# Altium schematic symbol library FM375_LQFP64.SchLib: 2 symbols
Pins are listed as number, name and electrical type; pins without a type are passive.

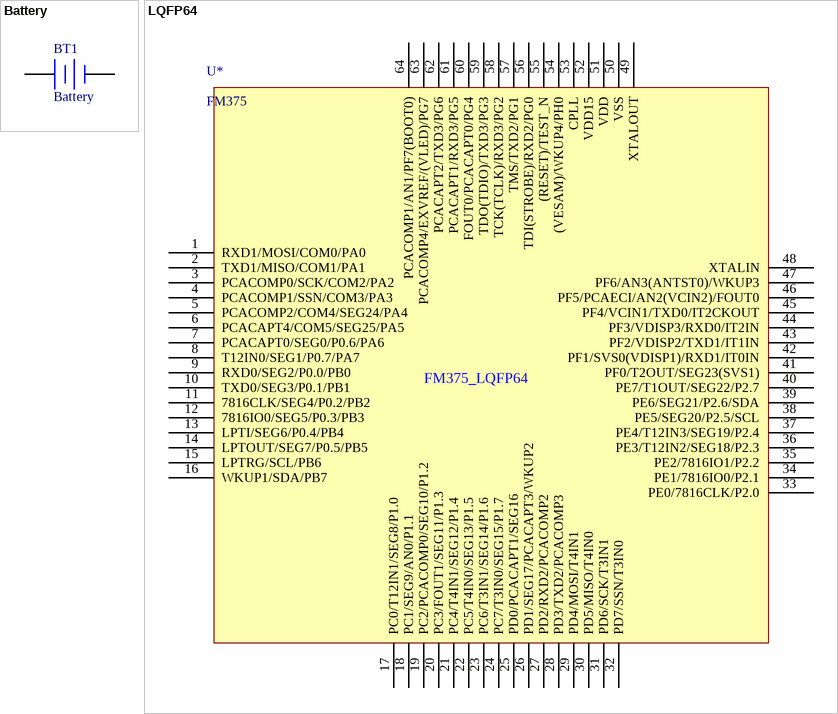
[diagram p0: symbols Battery to LQFP64]

## Battery
designator BT1
Multicell Battery; Published: 24-Mar-1999; LatestRevisionDate: 17-Jul-2002; LatestRevisionNote: Re-released for DXP Platform.; PackageReference: BAT-2; Publisher: Altium Limited; PackageDescription: Battery; 2 Leads
footprint BAT-2 (Battery; 2 Leads)
pins: 1 +, 2 -

## LQFP64
designator U*, comment FM375
footprint LQFP64-0.5
pins: 1 RXD1/MOSI/COM0/PA0, 2 TXD1/MISO/COM1/PA1, 3 PCACOMP0/SCK/COM2/PA2, 4 PCACOMP1/SSN/COM3/PA3, 5 PCACOMP2/COM4/SEG24/PA4, 6 PCACAPT4/COM5/SEG25/PA5, 7 PCACAPT0/SEG0/P0.6/PA6, 8 T12IN0/SEG1/P0.7/PA7, 9 RXD0/SEG2/P0.0/PB0, 10 TXD0/SEG3/P0.1/PB1, 11 7816CLK/SEG4/P0.2/PB2, 12 7816IO0/SEG5/P0.3/PB3, 13 LPTI/SEG6/P0.4/PB4, 14 LPTOUT/SEG7/P0.5/PB5, 15 LPTRG/SCL/PB6, 16 WKUP1/SDA/PB7, 17 PC0/T12IN1/SEG8/P1.0, 18 PC1/SEG9/AN0/P1.1, 19 PC2/PCACOMP0/SEG10/P1.2, 20 PC3/FOUT1/SEG11/P1.3, 21 PC4/T4IN1/SEG12/P1.4, 22 PC5/T4IN0/SEG13/P1.5, 23 PC6/T3IN1/SEG14/P1.6, 24 PC7/T3IN0/SEG15/P1.7, 25 PD0/PCACAPT1/SEG16, 26 PD1/SEG17/PCACAPT3/WKUP2, 27 PD2/RXD2/PCACOMP2, 28 PD3/TXD2/PCACOMP3, 29 PD4/MOSI/T4IN1, 30 PD5/MISO/T4IN0, 31 PD6/SCK/T3IN1, 32 PD7/SSN/T3IN0, 33 PE0/7816CLK/P2.0, 34 PE1/7816IO0/P2.1, 35 PE2/7816IO1/P2.2, 36 PE3/T12IN2/SEG18/P2.3, 37 PE4/T12IN3/SEG19/P2.4, 38 PE5/SEG20/P2.5/SCL, 39 PE6/SEG21/P2.6/SDA, 40 PE7/T1OUT/SEG22/P2.7, 41 PF0/T2OUT/SEG23(SVS1), 42 PF1/SVS0(VDISP1)/RXD1/IT0IN, 43 PF2/VDISP2/TXD1/IT1IN, 44 PF3/VDISP3/RXD0/IT2IN, 45 PF4/VCIN1/TXD0/IT2CKOUT, 46 PF5/PCAECI/AN2(VCIN2)/FOUT0, 47 PF6/AN3(ANTST0)/WKUP3, 48 XTALIN, 49 XTALOUT, 50 VSS, 51 VDD, 52 VDD15, 53 CPLL, 54 (VESAM)/WKUP4/PH0, 55 (RESET)/TEST_N, 56 TDI(STROBE)/RXD2/PG0, 57 TMS/TXD2/PG1, 58 TCK(TCLK)/RXD3/PG2, 59 TDO(TDIO)/TXD3/PG3, 60 FOUT0/PCACAPT0/PG4, 61 PCACAPT1/RXD3/PG5, 62 PCACAPT2/TXD3/PG6, 63 PCACOMP4/EXVREF/(VLED)/PG7, 64 PCACOMP1/AN1/PF7(BOOT0)
text: FM375_LQFP64